# Altium schematic symbol library HSCDANN_X.SchLib: 1 symbol
Pins are listed as number, name and electrical type; pins without a type are passive.

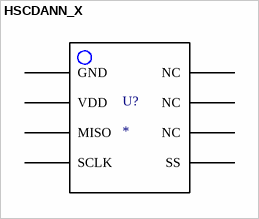
[diagram p0: symbol HSCDANN_X]

## HSCDANN_X
designator U?
footprint PDIP8
footprint PDIP8_SOCKET
pins: 1 GND, 2 VDD, 3 MISO, 4 SCLK, 5 SS, 6 NC, 7 NC, 8 NC